# EAGLE library part 4-1825059-1 (library switch)
SWITCH SLIDE DIP SPST 100MA 24V Manufacturer's datasheet <https://www.te.com/commerce/DocumentDelivery/DDEController?Action=srchrtrv&DocNm=1825059&DocType=Customer+Drawing&DocLang=English>
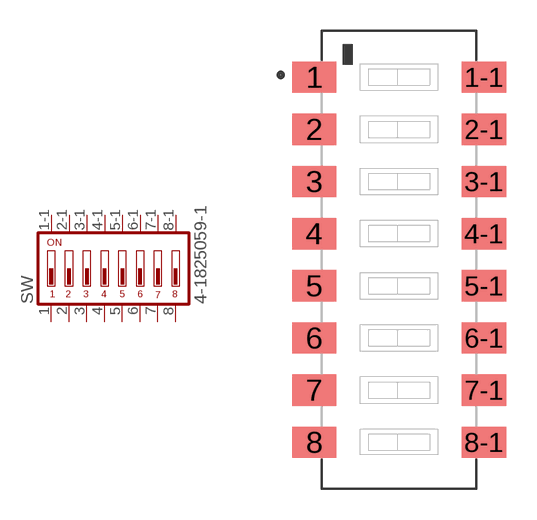
[diagram p2: symbol with the pads of 4-1825059-1; footprint 4-1825059-1]

Designator prefix SW

## 4-1825059-1 (CREATED_BY: PCBLayout.com; DIGIKEY_PARTNO: 4-1825059-1-ND; MANUFACTURER: TE Connectivity ALCOSWITCH Switches; MPN: 4-1825059-1)  [4-1825059-1]
1  1  pas
1-1  1-1  pas
2  2  pas
2-1  2-1  pas
3  3  pas
3-1  3-1  pas
4  4  pas
4-1  4-1  pas
5  5  pas
5-1  5-1  pas
6  6  pas
6-1  6-1  pas
7  7  pas
7-1  7-1  pas
8  8  pas
8-1  8-1  pas

## Footprint 4-1825059-1 (pad centres in mm)
smd 2.155 x 1.52: 1 -4.13,8.89; 1-1 4.13,8.89; 2 -4.13,6.35; 2-1 4.13,6.35; 3 -4.13,3.81; 3-1 4.13,3.81; 4 -4.13,1.27; 4-1 4.13,1.27; 5 -4.13,-1.27; 5-1 4.13,-1.27; 6 -4.13,-3.81; 6-1 4.13,-3.81; 7 -4.13,-6.35; 7-1 4.13,-6.35; 8 -4.13,-8.89; 8-1 4.13,-8.89